# EAGLE library part MOLEX_SL_13 (library molex-sl-connectors_jw)
Molex SL-Series PCB Header, 13-Pos, 0.1" (2.54mm) Centers
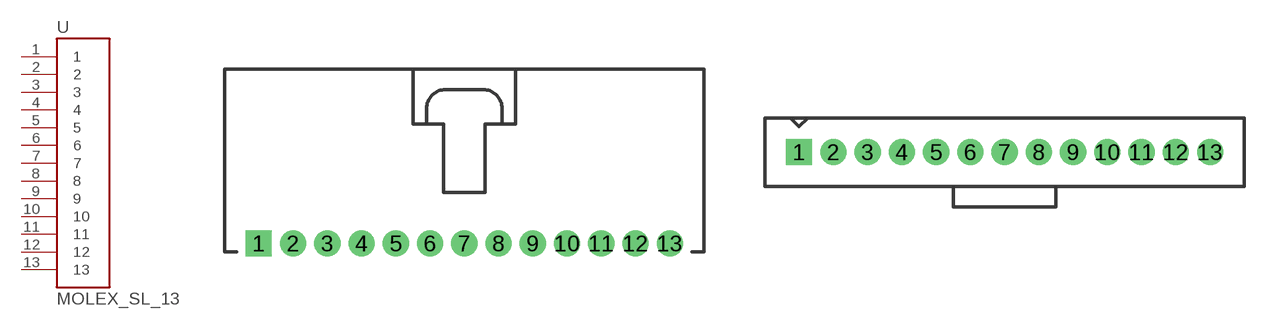
[diagram p7: symbol with the pads of SL_70553_13; footprints SL_70553_13, SL_70543_13]

Designator prefix -

## MOLEX_SL_13-70553  [SL_70553_13]
1  1
2  2
3  3
4  4
5  5
6  6
7  7
8  8
9  9
10  10
11  11
12  12
13  13

## MOLEX_SL_13-70543-74095  [SL_70543_13]
Pads as for SL_70553_13

## MOLEX_SL_13-70541-70545  [SL_70541_13]
Pads as for SL_70553_13

## MOLEX_SL_13-70551  [SL_70551_13]
Pads as for SL_70553_13

## MOLEX_SL_13-70555  [SL_70555_13]
Pads as for SL_70553_13

## MOLEX_SL_13-70634  [SL_70634_13]
Pads as for SL_70553_13

## MOLEX_SL_13-87898  [SL_87898_13]
Pads as for SL_70553_13

## Footprint SL_70553_13 (pad centres in mm)
Right-Angle Header w/ Latch (no pegs) 70553-0012 70553-0047 70553-0117 70553-0152
drill 1.1 pad 1.93 square: 1 -15.24,-5.08
drill 1.1 pad 1.93: 2 -12.7,-5.08; 3 -10.16,-5.08; 4 -7.62,-5.08; 5 -5.08,-5.08; 6 -2.54,-5.08; 7 0,-5.08; 8 2.54,-5.08; 9 5.08,-5.08; 10 7.62,-5.08; 11 10.16,-5.08; 12 12.7,-5.08; 13 15.24,-5.08

## Footprint SL_70543_13 (pad centres in mm)
Vertical Header w/ Latch & Optional Compliant Pins (no pegs) Normal Pins: 70543-0012 70543-0047 70543-0082 70543-0117 70543-0152 70543-0176 70543-0211 70543-0259 70543-0283 70543-0307 Compliant Pins 74095-0013 74095-0043 74095-0073 74095-1043 74095-1073
drill 1.1 pad 1.93 square: 1 -15.24,1.27
drill 1.1 pad 1.93: 2 -12.7,1.27; 3 -10.16,1.27; 4 -7.62,1.27; 5 -5.08,1.27; 6 -2.54,1.27; 7 0,1.27; 8 2.54,1.27; 9 5.08,1.27; 10 7.62,1.27; 11 10.16,1.27; 12 12.7,1.27; 13 15.24,1.27

## Footprint SL_70541_13 (pad centres in mm)
Vertical Header w/ Latch & Pegs With Split Pegs: 70541-0012 70541-0047 70541-0082 With Tri-Pegs: 70545-0012 70545-0047 70545-0082
drill 1.1 pad 1.93 square: 1 -15.24,1.27
drill 1.1 pad 1.93: 2 -12.7,1.27; 3 -10.16,1.27; 4 -7.62,1.27; 5 -5.08,1.27; 6 -2.54,1.27; 7 0,1.27; 8 2.54,1.27; 9 5.08,1.27; 10 7.62,1.27; 11 10.16,1.27; 12 12.7,1.27; 13 15.24,1.27
hole 3.404 at -19.304,0.508
hole 3.404 at 19.304,0.508

## Footprint SL_70551_13 (pad centres in mm)
Right-Angle Header w/ Latch & Split Pegs 70551-0012 70551-0047 70551-0082
drill 1.1 pad 1.93 square: 1 -15.24,-5.08
drill 1.1 pad 1.93: 2 -12.7,-5.08; 3 -10.16,-5.08; 4 -7.62,-5.08; 5 -5.08,-5.08; 6 -2.54,-5.08; 7 0,-5.08; 8 2.54,-5.08; 9 5.08,-5.08; 10 7.62,-5.08; 11 10.16,-5.08; 12 12.7,-5.08; 13 15.24,-5.08
hole 3.404 at -16.51,3.556
hole 3.404 at 16.51,3.556

## Footprint SL_70555_13 (pad centres in mm)
Right-Angle Header w/ Latch & Tri-Pegs 70555-0012 70555-0047 70555-0082 70555-5012
drill 1.1 pad 1.93 square: 1 -15.24,-5.08
drill 1.1 pad 1.93: 2 -12.7,-5.08; 3 -10.16,-5.08; 4 -7.62,-5.08; 5 -5.08,-5.08; 6 -2.54,-5.08; 7 0,-5.08; 8 2.54,-5.08; 9 5.08,-5.08; 10 7.62,-5.08; 11 10.16,-5.08; 12 12.7,-5.08; 13 15.24,-5.08
hole 3.404 at -16.637,3.556
hole 3.404 at 16.637,3.556

## Footprint SL_70634_13 (pad centres in mm)
SMD Right-Angle Header w/ Latch & PCB Pegs 70634-0012 70634-0047 70634-0082 70634-0117 70634-0152 70634-0187 70634-0213
smd 1.651 x 5.334: 1 -15.24,-7.62; 2 -12.7,-7.62; 3 -10.16,-7.62; 4 -7.62,-7.62; 5 -5.08,-7.62; 6 -2.54,-7.62; 7 0,-7.62; 8 2.54,-7.62; 9 5.08,-7.62; 10 7.62,-7.62; 11 10.16,-7.62; 12 12.7,-7.62; 13 15.24,-7.62
hole 3.404 at -16.662,3.048
hole 3.404 at 16.637,3.099

## Footprint SL_87898_13 (pad centres in mm)
SMD Vertical Header (no latch or pegs) Package also includes Pick-N-Place Cap Tube packaging w/o Pick-N-Place Cap: 87898-1321 87898-1322 87898-1324 87898-1325 87898-1326 Tube packaging w/ Pick-N-Place Cap: 87898-1331 87898-1332 87898-1334 87898-1335 87898-1336 Tape & Reel packaging w/ Pick-N-Place Cap: 87898-1351 87898-1352 87898-1354 87898-1355 87898-1356
smd 1.27 x 2.946: 1 -15.24,1.803; 2 -12.7,-1.803; 3 -10.16,1.803; 4 -7.62,-1.803; 5 -5.08,1.803; 6 -2.54,-1.803; 7 0,1.803; 8 2.54,-1.803; 9 5.08,1.803; 10 7.62,-1.803; 11 10.16,1.803; 12 12.7,-1.803; 13 15.24,1.803